# Altium integrated library National Semiconductor Switcher.IntLib: 2226 symbols (part 14 of 59)
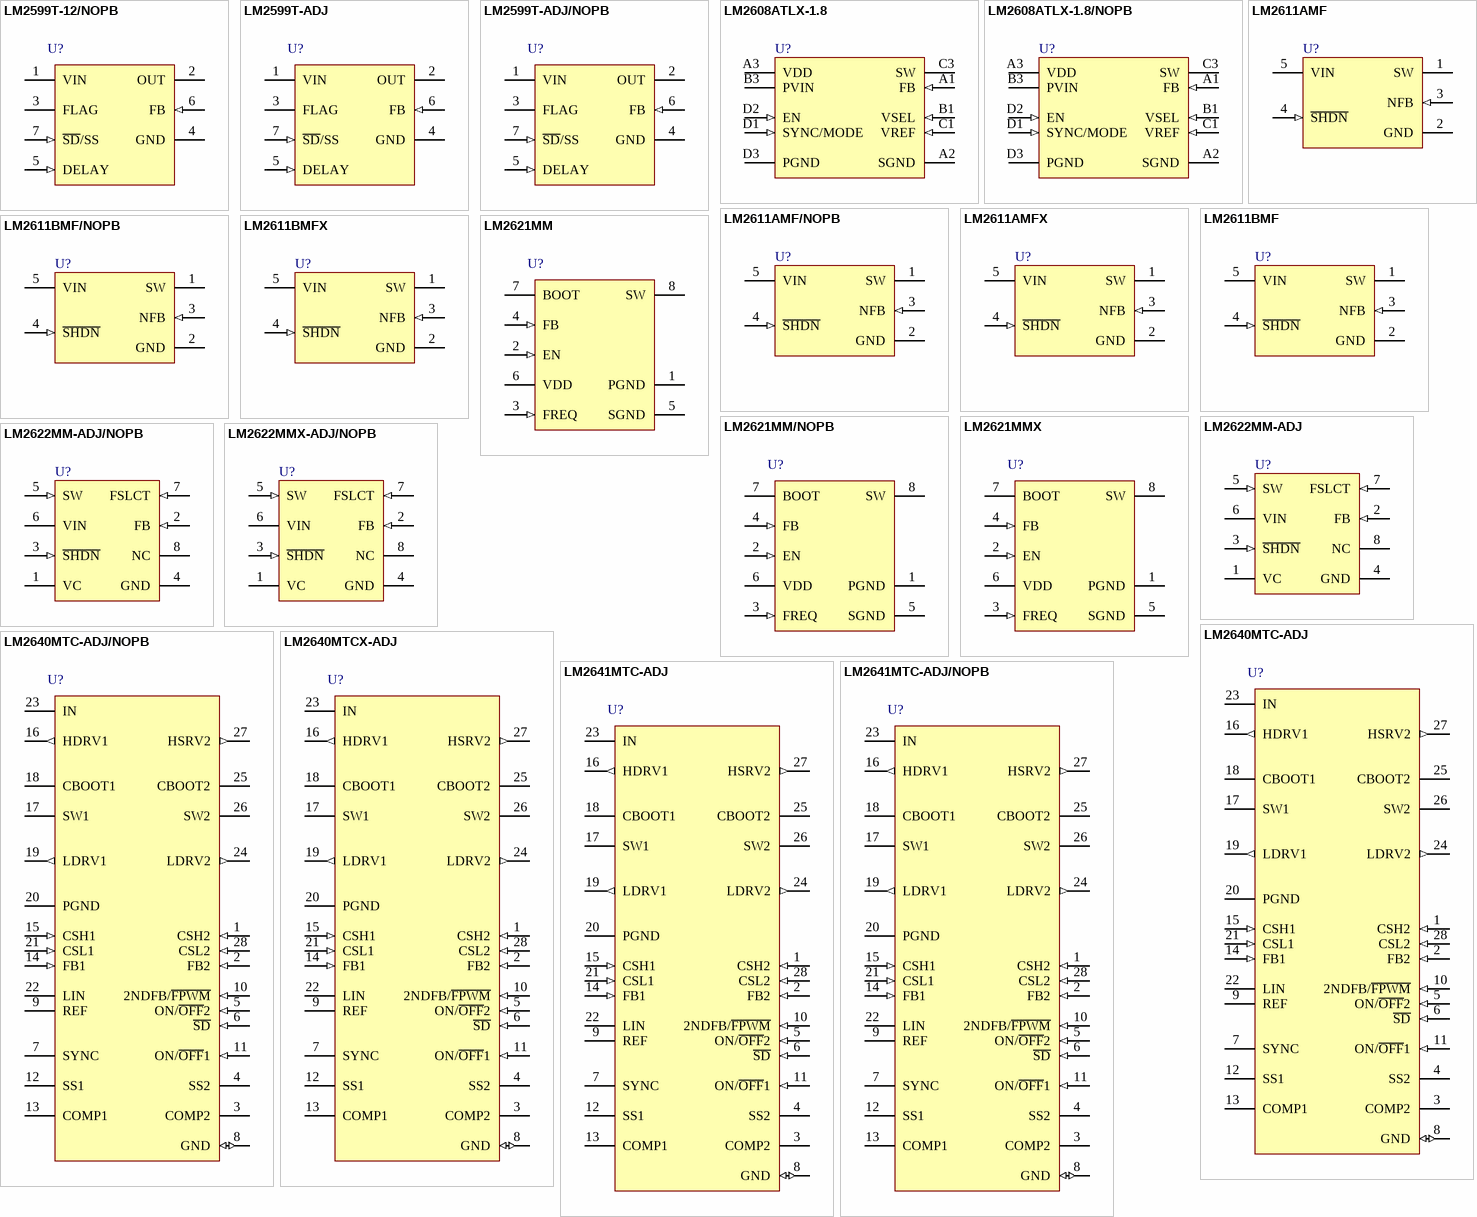
[diagram p82: symbols LM2599T-12/NOPB to LM2641MTC-ADJ/NOPB]

## LM2599T-12/NOPB
designator U?
SIMPLE SWITCHER® Power Converter 150 KHz 3A Step-Down Voltage Regulator with Features, 7-pin TO-220, Pb-Free; PartNumber: LM2599T-12/NOPB; Manufacturer: National Semiconductor; PackageTopMarking: NSUZXYTTE#*LM2599T*-12 P+; PowerWise: N; High-Reliability: Y; DatasheetVersion: Dec-2000; PackageVersion: revC, Apr-1999; PackageReference: TA07B; PackageDescription: TO-220, Molded, .400 x .590 x .180in Body, 7 Lead, .050in Pitch, Staggered; RoHS: Y; PinCount: 7; CompType: Switcher; Code_JEDEC: TO-220-AB; ComponentLink1Description: Manufacturer URL; ComponentLink1URL: http://www.national.com/; ComponentLink2Description: LM2599 Datasheet; ComponentLink2URL: http://www.national.com/ds/LM/LM2599.pdf; ComponentLink3Description: LM2599 Web Page; ComponentLink3URL: http://www.national.com/pf/LM/LM2599.html; ComponentLink4Description: TA07B Package Page; ComponentLink4URL: http://www.national.com/packaging/folders/ta07b.html
footprint TA07B (TO, Thru-Hole, Vertical, Heatsink Mounted; 7 Bent Staggered Leads; Body 10.2x8.7x4.6mm, Pitch 1.27 mm)
pins: 1 VIN (power), 2 OUT (power), 3 FLAG (oc), 4 GND (power), 5 DELAY (in), 6 FB (in), 7 ~{SD}/SS (in)

## LM2599T-ADJ
designator U?
SIMPLE SWITCHER® Power Converter 150 KHz 3A Step-Down Voltage Regulator with Features, 7-pin TO-220; PartNumber: LM2599T-ADJ; Manufacturer: National Semiconductor; PackageTopMarking: NSUZXYTTE#*LM2599T*-ADJ P+; PowerWise: N; High-Reliability: Y; DatasheetVersion: Dec-2000; PackageVersion: revC, Apr-1999; PackageReference: TA07B; PackageDescription: TO-220, Molded, .400 x .590 x .180in Body, 7 Lead, .050in Pitch, Staggered; RoHS: N; PinCount: 7; CompType: Switcher; Code_JEDEC: TO-220-AB; ComponentLink1Description: Manufacturer URL; ComponentLink1URL: http://www.national.com/; ComponentLink2Description: LM2599 Datasheet; ComponentLink2URL: http://www.national.com/ds/LM/LM2599.pdf; ComponentLink3Description: LM2599 Web Page; ComponentLink3URL: http://www.national.com/pf/LM/LM2599.html; ComponentLink4Description: TA07B Package Page; ComponentLink4URL: http://www.national.com/packaging/folders/ta07b.html
footprint TA07B (TO, Thru-Hole, Vertical, Heatsink Mounted; 7 Bent Staggered Leads; Body 10.2x8.7x4.6mm, Pitch 1.27 mm)
pins: 1 VIN (power), 2 OUT (power), 3 FLAG (oc), 4 GND (power), 5 DELAY (in), 6 FB (in), 7 ~{SD}/SS (in)

## LM2599T-ADJ/NOPB
designator U?
SIMPLE SWITCHER® Power Converter 150 KHz 3A Step-Down Voltage Regulator with Features, 7-pin TO-220, Pb-Free; PartNumber: LM2599T-ADJ/NOPB; Manufacturer: National Semiconductor; PackageTopMarking: NSUZXYTTE#*LM2599T*-ADJ P+; PowerWise: N; High-Reliability: Y; DatasheetVersion: Dec-2000; PackageVersion: revC, Apr-1999; PackageReference: TA07B; PackageDescription: TO-220, Molded, .400 x .590 x .180in Body, 7 Lead, .050in Pitch, Staggered; RoHS: Y; PinCount: 7; CompType: Switcher; Code_JEDEC: TO-220-AB; ComponentLink1Description: Manufacturer URL; ComponentLink1URL: http://www.national.com/; ComponentLink2Description: LM2599 Datasheet; ComponentLink2URL: http://www.national.com/ds/LM/LM2599.pdf; ComponentLink3Description: LM2599 Web Page; ComponentLink3URL: http://www.national.com/pf/LM/LM2599.html; ComponentLink4Description: TA07B Package Page; ComponentLink4URL: http://www.national.com/packaging/folders/ta07b.html
footprint TA07B (TO, Thru-Hole, Vertical, Heatsink Mounted; 7 Bent Staggered Leads; Body 10.2x8.7x4.6mm, Pitch 1.27 mm)
pins: 1 VIN (power), 2 OUT (power), 3 FLAG (oc), 4 GND (power), 5 DELAY (in), 6 FB (in), 7 ~{SD}/SS (in)

## LM2608ATLX-1.8
designator U?
400mA Sub-miniature, High Efficiency, Programmable DC-DC Converter with Linear Mode, 10-pin Micro SMD; PartNumber: LM2608ATLX-1.8; Manufacturer: National Semiconductor; PackageTopMarking: XYTT*I S44A; PowerWise: N; CompType: Switcher; High-Reliability: Y; DatasheetVersion: Dec-2002; PackageVersion: revD, Mar-2004; PackageReference: TLP108WA; PackageDescription: Thin Micro SMD, 10 Bump (Large), Periperal, 0.5mm Pitch; RoHS: Y; PinCount: 10; Code_JEDEC: MO-211-BD; ComponentLink1Description: Manufacturer URL; ComponentLink1URL: http://www.national.com/; ComponentLink2Description: LM2608 Datasheet; ComponentLink2URL: http://www.national.com/ds/LM/LM2608.pdf; ComponentLink3Description: LM2608 Web Page; ComponentLink3URL: http://www.national.com/pf/LM/LM2608.html; ComponentLink4Description: TLP108WA Package Page; ComponentLink4URL: http://www.national.com/packaging/folders/tlp108wa.html
footprint TLP108WA (Micro SMD, 10-Leads, Body 2.5x2.25mm, Pitch 0.5mm, NSC Recommended)
pins: A1 FB (in), A2 SGND (power), A3 VDD (power), B1 VSEL (in), B3 PVIN (power), C1 VREF (in), C3 SW (power), D1 SYNC/MODE (in), D2 EN (in), D3 PGND (power)

## LM2608ATLX-1.8/NOPB
designator U?
400mA Sub-miniature, High Efficiency, Programmable DC-DC Converter with Linear Mode, 10-pin Micro SMD, Pb-Free; PartNumber: LM2608ATLX-1.8/NOPB; Manufacturer: National Semiconductor; PackageTopMarking: XYTT*I S44A; PowerWise: N; CompType: Switcher; High-Reliability: Y; DatasheetVersion: Dec-2002; PackageVersion: revD, Mar-2004; PackageReference: TLP108WA; PackageDescription: Thin Micro SMD, 10 Bump (Large), Periperal, 0.5mm Pitch; RoHS: Y; PinCount: 10; Code_JEDEC: MO-211-BD; ComponentLink1Description: Manufacturer URL; ComponentLink1URL: http://www.national.com/; ComponentLink2Description: LM2608 Datasheet; ComponentLink2URL: http://www.national.com/ds/LM/LM2608.pdf; ComponentLink3Description: LM2608 Web Page; ComponentLink3URL: http://www.national.com/pf/LM/LM2608.html; ComponentLink4Description: TLP108WA Package Page; ComponentLink4URL: http://www.national.com/packaging/folders/tlp108wa.html
footprint TLP108WA (Micro SMD, 10-Leads, Body 2.5x2.25mm, Pitch 0.5mm, NSC Recommended)
pins: A1 FB (in), A2 SGND (power), A3 VDD (power), B1 VSEL (in), B3 PVIN (power), C1 VREF (in), C3 SW (power), D1 SYNC/MODE (in), D2 EN (in), D3 PGND (power)

## LM2611AMF
designator U?
1.4MHz Cuk Converter, 5-pin SOT-23; PartNumber: LM2611AMF; Manufacturer: National Semiconductor; PackageTopMarking: S40A*XTT; PowerWise: N; CompType: Switcher; High-Reliability: Y; DatasheetVersion: Jan-2005; PackageVersion: revD, Aug-2008; PackageReference: MF05A; PackageDescription: Molded SOT-23, .115 x .063 x .040 in Body, 5 Lead, .0375 in Pitch; RoHS: N; PinCount: 5; ComponentLink1Description: Manufacturer URL; ComponentLink1URL: http://www.national.com/; ComponentLink2Description: LM2611 Datasheet; ComponentLink2URL: http://www.national.com/ds/LM/LM2611.pdf; ComponentLink3Description: LM2611 Web Page; ComponentLink3URL: http://www.national.com/pf/LM/LM2611.html; ComponentLink4Description: MF05A Package Page; ComponentLink4URL: http://www.national.com/packaging/folders/mf05a.html
footprint MF05A_N (SOT23, 5-Leads, Body 2.9x1.6mm, Pitch 0.95mm, Lead Span 2.8mm, IPC Medium Density)
footprint MF05A_L (SOT23, 5-Leads, Body 2.9x1.6mm, Pitch 0.95mm, Lead Span 2.8mm, IPC High Density)
footprint MF05A_M (SOT23, 5-Leads, Body 2.9x1.6mm, Pitch 0.95mm, Lead Span 2.8mm, IPC Low Density)
pins: 1 SW (power), 2 GND (power), 3 NFB (in), 4 ~{SHDN} (in), 5 VIN (power)

## LM2611AMF/NOPB
designator U?
1.4MHz Cuk Converter, 5-pin SOT-23, Pb-Free; PartNumber: LM2611AMF/NOPB; Manufacturer: National Semiconductor; PackageTopMarking: S40A*XTT; PowerWise: N; CompType: Switcher; High-Reliability: Y; DatasheetVersion: Jan-2005; PackageVersion: revD, Aug-2008; PackageReference: MF05A; PackageDescription: Molded SOT-23, .115 x .063 x .040 in Body, 5 Lead, .0375 in Pitch; RoHS: Y; PinCount: 5; ComponentLink1Description: Manufacturer URL; ComponentLink1URL: http://www.national.com/; ComponentLink2Description: LM2611 Datasheet; ComponentLink2URL: http://www.national.com/ds/LM/LM2611.pdf; ComponentLink3Description: LM2611 Web Page; ComponentLink3URL: http://www.national.com/pf/LM/LM2611.html; ComponentLink4Description: MF05A Package Page; ComponentLink4URL: http://www.national.com/packaging/folders/mf05a.html
footprint MF05A_N (SOT23, 5-Leads, Body 2.9x1.6mm, Pitch 0.95mm, Lead Span 2.8mm, IPC Medium Density)
footprint MF05A_L (SOT23, 5-Leads, Body 2.9x1.6mm, Pitch 0.95mm, Lead Span 2.8mm, IPC High Density)
footprint MF05A_M (SOT23, 5-Leads, Body 2.9x1.6mm, Pitch 0.95mm, Lead Span 2.8mm, IPC Low Density)
pins: 1 SW (power), 2 GND (power), 3 NFB (in), 4 ~{SHDN} (in), 5 VIN (power)

## LM2611AMFX
designator U?
1.4MHz Cuk Converter, 5-pin SOT-23; PartNumber: LM2611AMFX; Manufacturer: National Semiconductor; PackageTopMarking: S40A*XTT; PowerWise: N; CompType: Switcher; High-Reliability: Y; DatasheetVersion: Jan-2005; PackageVersion: revD, Aug-2008; PackageReference: MF05A; PackageDescription: Molded SOT-23, .115 x .063 x .040 in Body, 5 Lead, .0375 in Pitch; RoHS: N; PinCount: 5; ComponentLink1Description: Manufacturer URL; ComponentLink1URL: http://www.national.com/; ComponentLink2Description: LM2611 Datasheet; ComponentLink2URL: http://www.national.com/ds/LM/LM2611.pdf; ComponentLink3Description: LM2611 Web Page; ComponentLink3URL: http://www.national.com/pf/LM/LM2611.html; ComponentLink4Description: MF05A Package Page; ComponentLink4URL: http://www.national.com/packaging/folders/mf05a.html
footprint MF05A_N (SOT23, 5-Leads, Body 2.9x1.6mm, Pitch 0.95mm, Lead Span 2.8mm, IPC Medium Density)
footprint MF05A_L (SOT23, 5-Leads, Body 2.9x1.6mm, Pitch 0.95mm, Lead Span 2.8mm, IPC High Density)
footprint MF05A_M (SOT23, 5-Leads, Body 2.9x1.6mm, Pitch 0.95mm, Lead Span 2.8mm, IPC Low Density)
pins: 1 SW (power), 2 GND (power), 3 NFB (in), 4 ~{SHDN} (in), 5 VIN (power)

## LM2611BMF
designator U?
1.4MHz Cuk Converter, 5-pin SOT-23; PartNumber: LM2611BMF; Manufacturer: National Semiconductor; PackageTopMarking: S40B*XTT; PowerWise: N; CompType: Switcher; High-Reliability: Y; DatasheetVersion: Jan-2005; PackageVersion: revD, Aug-2008; PackageReference: MF05A; PackageDescription: Molded SOT-23, .115 x .063 x .040 in Body, 5 Lead, .0375 in Pitch; RoHS: N; PinCount: 5; ComponentLink1Description: Manufacturer URL; ComponentLink1URL: http://www.national.com/; ComponentLink2Description: LM2611 Datasheet; ComponentLink2URL: http://www.national.com/ds/LM/LM2611.pdf; ComponentLink3Description: LM2611 Web Page; ComponentLink3URL: http://www.national.com/pf/LM/LM2611.html; ComponentLink4Description: MF05A Package Page; ComponentLink4URL: http://www.national.com/packaging/folders/mf05a.html
footprint MF05A_N (SOT23, 5-Leads, Body 2.9x1.6mm, Pitch 0.95mm, Lead Span 2.8mm, IPC Medium Density)
footprint MF05A_L (SOT23, 5-Leads, Body 2.9x1.6mm, Pitch 0.95mm, Lead Span 2.8mm, IPC High Density)
footprint MF05A_M (SOT23, 5-Leads, Body 2.9x1.6mm, Pitch 0.95mm, Lead Span 2.8mm, IPC Low Density)
pins: 1 SW (power), 2 GND (power), 3 NFB (in), 4 ~{SHDN} (in), 5 VIN (power)

## LM2611BMF/NOPB
designator U?
1.4MHz Cuk Converter, 5-pin SOT-23, Pb-Free; PartNumber: LM2611BMF/NOPB; Manufacturer: National Semiconductor; PackageTopMarking: S40B*XTT; PowerWise: N; CompType: Switcher; High-Reliability: Y; DatasheetVersion: Jan-2005; PackageVersion: revD, Aug-2008; PackageReference: MF05A; PackageDescription: Molded SOT-23, .115 x .063 x .040 in Body, 5 Lead, .0375 in Pitch; RoHS: Y; PinCount: 5; ComponentLink1Description: Manufacturer URL; ComponentLink1URL: http://www.national.com/; ComponentLink2Description: LM2611 Datasheet; ComponentLink2URL: http://www.national.com/ds/LM/LM2611.pdf; ComponentLink3Description: LM2611 Web Page; ComponentLink3URL: http://www.national.com/pf/LM/LM2611.html; ComponentLink4Description: MF05A Package Page; ComponentLink4URL: http://www.national.com/packaging/folders/mf05a.html
footprint MF05A_N (SOT23, 5-Leads, Body 2.9x1.6mm, Pitch 0.95mm, Lead Span 2.8mm, IPC Medium Density)
footprint MF05A_L (SOT23, 5-Leads, Body 2.9x1.6mm, Pitch 0.95mm, Lead Span 2.8mm, IPC High Density)
footprint MF05A_M (SOT23, 5-Leads, Body 2.9x1.6mm, Pitch 0.95mm, Lead Span 2.8mm, IPC Low Density)
pins: 1 SW (power), 2 GND (power), 3 NFB (in), 4 ~{SHDN} (in), 5 VIN (power)

## LM2611BMFX
designator U?
1.4MHz Cuk Converter, 5-pin SOT-23; PartNumber: LM2611BMFX; Manufacturer: National Semiconductor; PackageTopMarking: S40B*XTT; PowerWise: N; CompType: Switcher; High-Reliability: Y; DatasheetVersion: Jan-2005; PackageVersion: revD, Aug-2008; PackageReference: MF05A; PackageDescription: Molded SOT-23, .115 x .063 x .040 in Body, 5 Lead, .0375 in Pitch; RoHS: N; PinCount: 5; ComponentLink1Description: Manufacturer URL; ComponentLink1URL: http://www.national.com/; ComponentLink2Description: LM2611 Datasheet; ComponentLink2URL: http://www.national.com/ds/LM/LM2611.pdf; ComponentLink3Description: LM2611 Web Page; ComponentLink3URL: http://www.national.com/pf/LM/LM2611.html; ComponentLink4Description: MF05A Package Page; ComponentLink4URL: http://www.national.com/packaging/folders/mf05a.html
footprint MF05A_N (SOT23, 5-Leads, Body 2.9x1.6mm, Pitch 0.95mm, Lead Span 2.8mm, IPC Medium Density)
footprint MF05A_L (SOT23, 5-Leads, Body 2.9x1.6mm, Pitch 0.95mm, Lead Span 2.8mm, IPC High Density)
footprint MF05A_M (SOT23, 5-Leads, Body 2.9x1.6mm, Pitch 0.95mm, Lead Span 2.8mm, IPC Low Density)
pins: 1 SW (power), 2 GND (power), 3 NFB (in), 4 ~{SHDN} (in), 5 VIN (power)

## LM2621MM
designator U?
Low Input Voltage, Step-Up DC-DC, 8-pin MSOP; PartNumber: LM2621MM; Manufacturer: National Semiconductor; PackageTopMarking: ZXTT*S06A; PowerWise: N; CompType: Switcher; High-Reliability: Y; DatasheetVersion: Mar-2005; PackageVersion: revF, Apr-2008; PackageReference: MUA08A; PackageDescription: MINI SOIC, .118 x .118 x .034in, 8 Lead, .0256in Pitch; RoHS: N; PinCount: 8; Code_JEDEC: MO-187-AA; ComponentLink1Description: Manufacturer URL; ComponentLink1URL: http://www.national.com/; ComponentLink2Description: LM2621 Datasheet; ComponentLink2URL: http://www.national.com/ds/LM/LM2621.pdf; ComponentLink3Description: LM2621 Web Page; ComponentLink3URL: http://www.national.com/pf/LM/LM2621.html; ComponentLink4Description: MUA08A Package Page; ComponentLink4URL: http://www.national.com/packaging/folders/mua08a.html
footprint MUA08A_N (TSOP, 8-Leads, Body 3x3mm, Pitch 0.65mm, IPC Medium Density)
footprint MUA08A_L (TSOP, 8-Leads, Body 3x3mm, Pitch 0.65mm, IPC High Density)
footprint MUA08A_M (TSOP, 8-Leads, Body 3x3mm, Pitch 0.65mm, IPC Low Density)
pins: 1 PGND (power), 2 EN (in), 3 FREQ (in), 4 FB (in), 5 SGND (power), 6 VDD (power), 7 BOOT, 8 SW (power)

## LM2621MM/NOPB
designator U?
Low Input Voltage, Step-Up DC-DC, 8-pin MSOP, Pb-Free; PartNumber: LM2621MM/NOPB; Manufacturer: National Semiconductor; PackageTopMarking: ZXTT*S06A; PowerWise: N; CompType: Switcher; High-Reliability: Y; DatasheetVersion: Mar-2005; PackageVersion: revF, Apr-2008; PackageReference: MUA08A; PackageDescription: MINI SOIC, .118 x .118 x .034in, 8 Lead, .0256in Pitch; RoHS: Y; PinCount: 8; Code_JEDEC: MO-187-AA; ComponentLink1Description: Manufacturer URL; ComponentLink1URL: http://www.national.com/; ComponentLink2Description: LM2621 Datasheet; ComponentLink2URL: http://www.national.com/ds/LM/LM2621.pdf; ComponentLink3Description: LM2621 Web Page; ComponentLink3URL: http://www.national.com/pf/LM/LM2621.html; ComponentLink4Description: MUA08A Package Page; ComponentLink4URL: http://www.national.com/packaging/folders/mua08a.html
footprint MUA08A_N (TSOP, 8-Leads, Body 3x3mm, Pitch 0.65mm, IPC Medium Density)
footprint MUA08A_L (TSOP, 8-Leads, Body 3x3mm, Pitch 0.65mm, IPC High Density)
footprint MUA08A_M (TSOP, 8-Leads, Body 3x3mm, Pitch 0.65mm, IPC Low Density)
pins: 1 PGND (power), 2 EN (in), 3 FREQ (in), 4 FB (in), 5 SGND (power), 6 VDD (power), 7 BOOT, 8 SW (power)

## LM2621MMX
designator U?
Low Input Voltage, Step-Up DC-DC, 8-pin MSOP; PartNumber: LM2621MMX; Manufacturer: National Semiconductor; PackageTopMarking: ZXTT*S06A; PowerWise: N; CompType: Switcher; High-Reliability: Y; DatasheetVersion: Mar-2005; PackageVersion: revF, Apr-2008; PackageReference: MUA08A; PackageDescription: MINI SOIC, .118 x .118 x .034in, 8 Lead, .0256in Pitch; RoHS: N; PinCount: 8; Code_JEDEC: MO-187-AA; ComponentLink1Description: Manufacturer URL; ComponentLink1URL: http://www.national.com/; ComponentLink2Description: LM2621 Datasheet; ComponentLink2URL: http://www.national.com/ds/LM/LM2621.pdf; ComponentLink3Description: LM2621 Web Page; ComponentLink3URL: http://www.national.com/pf/LM/LM2621.html; ComponentLink4Description: MUA08A Package Page; ComponentLink4URL: http://www.national.com/packaging/folders/mua08a.html
footprint MUA08A_N (TSOP, 8-Leads, Body 3x3mm, Pitch 0.65mm, IPC Medium Density)
footprint MUA08A_L (TSOP, 8-Leads, Body 3x3mm, Pitch 0.65mm, IPC High Density)
footprint MUA08A_M (TSOP, 8-Leads, Body 3x3mm, Pitch 0.65mm, IPC Low Density)
pins: 1 PGND (power), 2 EN (in), 3 FREQ (in), 4 FB (in), 5 SGND (power), 6 VDD (power), 7 BOOT, 8 SW (power)

## LM2622MM-ADJ
designator U?
600kHz/1.3MHz Step-up PWM DC/DC Converter, 8-pin MSOP; PartNumber: LM2622MM-ADJ; Manufacturer: National Semiconductor; PackageTopMarking: ZXTT*S18B; PowerWise: N; CompType: Switcher; High-Reliability: Y; DatasheetVersion: May-2004; PackageVersion: revF, Apr-2008; PackageReference: MUA08A; PackageDescription: MINI SOIC, .118 x .118 x .034in, 8 Lead, .0256in Pitch; RoHS: N; PinCount: 8; Code_JEDEC: MO-187-AA; ComponentLink1Description: Manufacturer URL; ComponentLink1URL: http://www.national.com/; ComponentLink2Description: LM2622 Datasheet; ComponentLink2URL: http://www.national.com/ds/LM/LM2622.pdf; ComponentLink3Description: LM2622 Web Page; ComponentLink3URL: http://www.national.com/pf/LM/LM2622.html; ComponentLink4Description: MUA08A Package Page; ComponentLink4URL: http://www.national.com/packaging/folders/mua08a.html
footprint MUA08A_N (TSOP, 8-Leads, Body 3x3mm, Pitch 0.65mm, IPC Medium Density)
footprint MUA08A_L (TSOP, 8-Leads, Body 3x3mm, Pitch 0.65mm, IPC High Density)
footprint MUA08A_M (TSOP, 8-Leads, Body 3x3mm, Pitch 0.65mm, IPC Low Density)
pins: 1 VC (power), 2 FB (in), 3 ~{SHDN} (in), 4 GND (power), 5 SW (in), 6 VIN (power), 7 FSLCT (in), 8 NC

## LM2622MM-ADJ/NOPB
designator U?
600kHz/1.3MHz Step-up PWM DC/DC Converter, 8-pin MSOP, Pb-Free; PartNumber: LM2622MM-ADJ/NOPB; Manufacturer: National Semiconductor; PackageTopMarking: ZXTT*S18B; PowerWise: N; CompType: Switcher; High-Reliability: Y; DatasheetVersion: May-2004; PackageVersion: revF, Apr-2008; PackageReference: MUA08A; PackageDescription: MINI SOIC, .118 x .118 x .034in, 8 Lead, .0256in Pitch; RoHS: Y; PinCount: 8; Code_JEDEC: MO-187-AA; ComponentLink1Description: Manufacturer URL; ComponentLink1URL: http://www.national.com/; ComponentLink2Description: LM2622 Datasheet; ComponentLink2URL: http://www.national.com/ds/LM/LM2622.pdf; ComponentLink3Description: LM2622 Web Page; ComponentLink3URL: http://www.national.com/pf/LM/LM2622.html; ComponentLink4Description: MUA08A Package Page; ComponentLink4URL: http://www.national.com/packaging/folders/mua08a.html
footprint MUA08A_N (TSOP, 8-Leads, Body 3x3mm, Pitch 0.65mm, IPC Medium Density)
footprint MUA08A_L (TSOP, 8-Leads, Body 3x3mm, Pitch 0.65mm, IPC High Density)
footprint MUA08A_M (TSOP, 8-Leads, Body 3x3mm, Pitch 0.65mm, IPC Low Density)
pins: 1 VC (power), 2 FB (in), 3 ~{SHDN} (in), 4 GND (power), 5 SW (in), 6 VIN (power), 7 FSLCT (in), 8 NC

## LM2622MMX-ADJ/NOPB
designator U?
600kHz/1.3MHz Step-up PWM DC/DC Converter, 8-pin MSOP, Pb-Free; PartNumber: LM2622MMX-ADJ/NOPB; Manufacturer: National Semiconductor; PackageTopMarking: ZXTT*S18B; PowerWise: N; CompType: Switcher; High-Reliability: Y; DatasheetVersion: May-2004; PackageVersion: revF, Apr-2008; PackageReference: MUA08A; PackageDescription: MINI SOIC, .118 x .118 x .034in, 8 Lead, .0256in Pitch; RoHS: Y; PinCount: 8; Code_JEDEC: MO-187-AA; ComponentLink1Description: Manufacturer URL; ComponentLink1URL: http://www.national.com/; ComponentLink2Description: LM2622 Datasheet; ComponentLink2URL: http://www.national.com/ds/LM/LM2622.pdf; ComponentLink3Description: LM2622 Web Page; ComponentLink3URL: http://www.national.com/pf/LM/LM2622.html; ComponentLink4Description: MUA08A Package Page; ComponentLink4URL: http://www.national.com/packaging/folders/mua08a.html
footprint MUA08A_N (TSOP, 8-Leads, Body 3x3mm, Pitch 0.65mm, IPC Medium Density)
footprint MUA08A_L (TSOP, 8-Leads, Body 3x3mm, Pitch 0.65mm, IPC High Density)
footprint MUA08A_M (TSOP, 8-Leads, Body 3x3mm, Pitch 0.65mm, IPC Low Density)
pins: 1 VC (power), 2 FB (in), 3 ~{SHDN} (in), 4 GND (power), 5 SW (in), 6 VIN (power), 7 FSLCT (in), 8 NC

## LM2640MTC-ADJ
designator U?
Dual Adjustable Step-Down Switching Power Supply Controller, 28-pin TSSOP; PartNumber: LM2640MTC-ADJ; Manufacturer: National Semiconductor; PackageTopMarking: NSUZXYTTE#*LM2640M*TC-ADJ; PowerWise: N; CompType: Switcher; High-Reliability: Y; DatasheetVersion: May-2001; PackageVersion: revD, Jan-2005; PackageReference: MTC28; PackageDescription: Molded TSSOP, Jedec, 9.7 x 4.4 x 0.9mm Body, 28 Lead, 0.65mm Pitch; RoHS: N; PinCount: 28; Code_JEDEC: MO-153-AE; ComponentLink1Description: Manufacturer URL; ComponentLink1URL: http://www.national.com/; ComponentLink2Description: LM2640 Datasheet; ComponentLink2URL: http://www.national.com/ds/LM/LM2640.pdf; ComponentLink3Description: LM2640 Web Page; ComponentLink3URL: http://www.national.com/pf/LM/LM2640.html; ComponentLink4Description: MTC28 Package Page; ComponentLink4URL: http://www.national.com/packaging/folders/mtc28.html
footprint MTC28_N (TSOP, 28-Leads, Body 9.7x4.4mm, Pitch 0.65mm, IPC Medium Density)
footprint MTC28_L (TSOP, 28-Leads, Body 9.7x4.4mm, Pitch 0.65mm, IPC High Density)
footprint MTC28_M (TSOP, 28-Leads, Body 9.7x4.4mm, Pitch 0.65mm, IPC Low Density)
pins: 1 CSH2 (in), 2 FB2 (in), 3 COMP2, 4 SS2, 5 ON/~{OFF}2 (in), 6 ~{SD} (in), 7 SYNC, 8 GND (io), 9 REF (power), 10 2NDFB/~{FPWM} (in), 11 ON/~{OFF}1 (in), 12 SS1, 13 COMP1, 14 FB1 (in), 15 CSH1 (in), 16 HDRV1 (out), 17 SW1 (power), 18 CBOOT1, 19 LDRV1 (out), 20 PGND (power), 21 CSL1 (in), 22 LIN (power), 23 IN (power), 24 LDRV2 (out), 25 CBOOT2, 26 SW2 (power), 27 HSRV2 (out), 28 CSL2 (in)

## LM2640MTC-ADJ/NOPB
designator U?
Dual Adjustable Step-Down Switching Power Supply Controller, 28-pin TSSOP, Pb-Free; PartNumber: LM2640MTC-ADJ/NOPB; Manufacturer: National Semiconductor; PackageTopMarking: NSUZXYTTE#*LM2640M*TC-ADJ; PowerWise: N; CompType: Switcher; High-Reliability: Y; DatasheetVersion: May-2001; PackageVersion: revD, Jan-2005; PackageReference: MTC28; PackageDescription: Molded TSSOP, Jedec, 9.7 x 4.4 x 0.9mm Body, 28 Lead, 0.65mm Pitch; RoHS: Y; PinCount: 28; Code_JEDEC: MO-153-AE; ComponentLink1Description: Manufacturer URL; ComponentLink1URL: http://www.national.com/; ComponentLink2Description: LM2640 Datasheet; ComponentLink2URL: http://www.national.com/ds/LM/LM2640.pdf; ComponentLink3Description: LM2640 Web Page; ComponentLink3URL: http://www.national.com/pf/LM/LM2640.html; ComponentLink4Description: MTC28 Package Page; ComponentLink4URL: http://www.national.com/packaging/folders/mtc28.html
footprint MTC28_N (TSOP, 28-Leads, Body 9.7x4.4mm, Pitch 0.65mm, IPC Medium Density)
footprint MTC28_L (TSOP, 28-Leads, Body 9.7x4.4mm, Pitch 0.65mm, IPC High Density)
footprint MTC28_M (TSOP, 28-Leads, Body 9.7x4.4mm, Pitch 0.65mm, IPC Low Density)
pins: 1 CSH2 (in), 2 FB2 (in), 3 COMP2, 4 SS2, 5 ON/~{OFF}2 (in), 6 ~{SD} (in), 7 SYNC, 8 GND (io), 9 REF (power), 10 2NDFB/~{FPWM} (in), 11 ON/~{OFF}1 (in), 12 SS1, 13 COMP1, 14 FB1 (in), 15 CSH1 (in), 16 HDRV1 (out), 17 SW1 (power), 18 CBOOT1, 19 LDRV1 (out), 20 PGND (power), 21 CSL1 (in), 22 LIN (power), 23 IN (power), 24 LDRV2 (out), 25 CBOOT2, 26 SW2 (power), 27 HSRV2 (out), 28 CSL2 (in)

## LM2640MTCX-ADJ
designator U?
Dual Adjustable Step-Down Switching Power Supply Controller, 28-pin TSSOP; PartNumber: LM2640MTCX-ADJ; Manufacturer: National Semiconductor; PackageTopMarking: NSUZXYTTE#*LM2640M*TC-ADJ; PowerWise: N; CompType: Switcher; High-Reliability: Y; DatasheetVersion: May-2001; PackageVersion: revD, Jan-2005; PackageReference: MTC28; PackageDescription: Molded TSSOP, Jedec, 9.7 x 4.4 x 0.9mm Body, 28 Lead, 0.65mm Pitch; RoHS: N; PinCount: 28; Code_JEDEC: MO-153-AE; ComponentLink1Description: Manufacturer URL; ComponentLink1URL: http://www.national.com/; ComponentLink2Description: LM2640 Datasheet; ComponentLink2URL: http://www.national.com/ds/LM/LM2640.pdf; ComponentLink3Description: LM2640 Web Page; ComponentLink3URL: http://www.national.com/pf/LM/LM2640.html; ComponentLink4Description: MTC28 Package Page; ComponentLink4URL: http://www.national.com/packaging/folders/mtc28.html
footprint MTC28_N (TSOP, 28-Leads, Body 9.7x4.4mm, Pitch 0.65mm, IPC Medium Density)
footprint MTC28_L (TSOP, 28-Leads, Body 9.7x4.4mm, Pitch 0.65mm, IPC High Density)
footprint MTC28_M (TSOP, 28-Leads, Body 9.7x4.4mm, Pitch 0.65mm, IPC Low Density)
pins: 1 CSH2 (in), 2 FB2 (in), 3 COMP2, 4 SS2, 5 ON/~{OFF}2 (in), 6 ~{SD} (in), 7 SYNC, 8 GND (io), 9 REF (power), 10 2NDFB/~{FPWM} (in), 11 ON/~{OFF}1 (in), 12 SS1, 13 COMP1, 14 FB1 (in), 15 CSH1 (in), 16 HDRV1 (out), 17 SW1 (power), 18 CBOOT1, 19 LDRV1 (out), 20 PGND (power), 21 CSL1 (in), 22 LIN (power), 23 IN (power), 24 LDRV2 (out), 25 CBOOT2, 26 SW2 (power), 27 HSRV2 (out), 28 CSL2 (in)

## LM2641MTC-ADJ
designator U?
Dual Adjustable Step-Down Switching Power Supply Controller, 28-pin TSSOP; PartNumber: LM2641MTC-ADJ; Manufacturer: National Semiconductor; PackageTopMarking: NSUZXYTTE#*LM2641M*TC-ADJ; PowerWise: N; CompType: Switcher; High-Reliability: Y; DatasheetVersion: May-2001; PackageVersion: revD, Jan-2005; PackageReference: MTC28; PackageDescription: Molded TSSOP, Jedec, 9.7 x 4.4 x 0.9mm Body, 28 Lead, 0.65mm Pitch; RoHS: N; PinCount: 28; Code_JEDEC: MO-153-AE; ComponentLink1Description: Manufacturer URL; ComponentLink1URL: http://www.national.com/; ComponentLink2Description: LM2641 Datasheet; ComponentLink2URL: http://www.national.com/ds/LM/LM2641.pdf; ComponentLink3Description: LM2641 Web Page; ComponentLink3URL: http://www.national.com/pf/LM/LM2641.html; ComponentLink4Description: MTC28 Package Page; ComponentLink4URL: http://www.national.com/packaging/folders/mtc28.html
footprint MTC28_N (TSOP, 28-Leads, Body 9.7x4.4mm, Pitch 0.65mm, IPC Medium Density)
footprint MTC28_L (TSOP, 28-Leads, Body 9.7x4.4mm, Pitch 0.65mm, IPC High Density)
footprint MTC28_M (TSOP, 28-Leads, Body 9.7x4.4mm, Pitch 0.65mm, IPC Low Density)
pins: 1 CSH2 (in), 2 FB2 (in), 3 COMP2, 4 SS2, 5 ON/~{OFF}2 (in), 6 ~{SD} (in), 7 SYNC, 8 GND (io), 9 REF (power), 10 2NDFB/~{FPWM} (in), 11 ON/~{OFF}1 (in), 12 SS1, 13 COMP1, 14 FB1 (in), 15 CSH1 (in), 16 HDRV1 (out), 17 SW1 (power), 18 CBOOT1, 19 LDRV1 (out), 20 PGND (power), 21 CSL1 (in), 22 LIN (power), 23 IN (power), 24 LDRV2 (out), 25 CBOOT2, 26 SW2 (power), 27 HSRV2 (out), 28 CSL2 (in)

## LM2641MTC-ADJ/NOPB
designator U?
Dual Adjustable Step-Down Switching Power Supply Controller, 28-pin TSSOP, Pb-Free; PartNumber: LM2641MTC-ADJ/NOPB; Manufacturer: National Semiconductor; PackageTopMarking: NSUZXYTTE#*LM2641M*TC-ADJ; PowerWise: N; CompType: Switcher; High-Reliability: Y; DatasheetVersion: May-2001; PackageVersion: revD, Jan-2005; PackageReference: MTC28; PackageDescription: Molded TSSOP, Jedec, 9.7 x 4.4 x 0.9mm Body, 28 Lead, 0.65mm Pitch; RoHS: Y; PinCount: 28; Code_JEDEC: MO-153-AE; ComponentLink1Description: Manufacturer URL; ComponentLink1URL: http://www.national.com/; ComponentLink2Description: LM2641 Datasheet; ComponentLink2URL: http://www.national.com/ds/LM/LM2641.pdf; ComponentLink3Description: LM2641 Web Page; ComponentLink3URL: http://www.national.com/pf/LM/LM2641.html; ComponentLink4Description: MTC28 Package Page; ComponentLink4URL: http://www.national.com/packaging/folders/mtc28.html
footprint MTC28_N (TSOP, 28-Leads, Body 9.7x4.4mm, Pitch 0.65mm, IPC Medium Density)
footprint MTC28_L (TSOP, 28-Leads, Body 9.7x4.4mm, Pitch 0.65mm, IPC High Density)
footprint MTC28_M (TSOP, 28-Leads, Body 9.7x4.4mm, Pitch 0.65mm, IPC Low Density)
pins: 1 CSH2 (in), 2 FB2 (in), 3 COMP2, 4 SS2, 5 ON/~{OFF}2 (in), 6 ~{SD} (in), 7 SYNC, 8 GND (io), 9 REF (power), 10 2NDFB/~{FPWM} (in), 11 ON/~{OFF}1 (in), 12 SS1, 13 COMP1, 14 FB1 (in), 15 CSH1 (in), 16 HDRV1 (out), 17 SW1 (power), 18 CBOOT1, 19 LDRV1 (out), 20 PGND (power), 21 CSL1 (in), 22 LIN (power), 23 IN (power), 24 LDRV2 (out), 25 CBOOT2, 26 SW2 (power), 27 HSRV2 (out), 28 CSL2 (in)

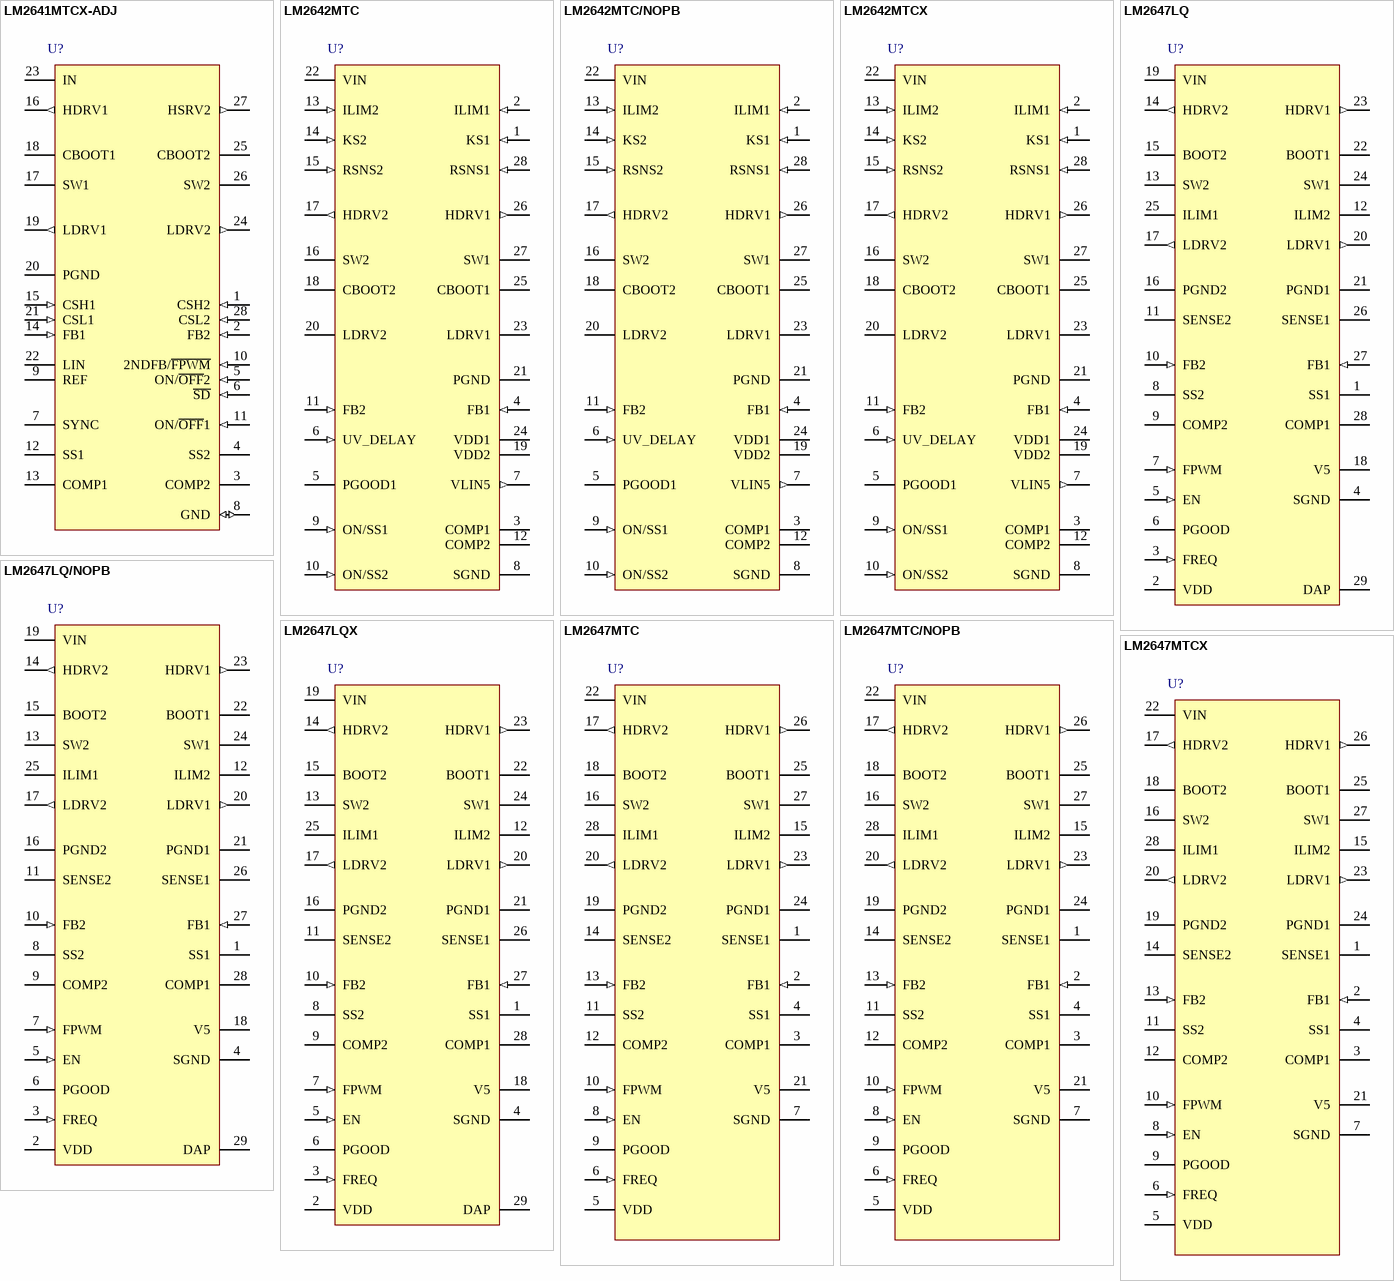
[diagram p14: symbols LM2641MTCX-ADJ to LM2647MTCX]

## LM2641MTCX-ADJ
designator U?
Dual Adjustable Step-Down Switching Power Supply Controller, 28-pin TSSOP; PartNumber: LM2641MTCX-ADJ; Manufacturer: National Semiconductor; PackageTopMarking: NSUZXYTTE#*LM2641M*TC-ADJ; PowerWise: N; CompType: Switcher; High-Reliability: Y; DatasheetVersion: May-2001; PackageVersion: revD, Jan-2005; PackageReference: MTC28; PackageDescription: Molded TSSOP, Jedec, 9.7 x 4.4 x 0.9mm Body, 28 Lead, 0.65mm Pitch; RoHS: N; PinCount: 28; Code_JEDEC: MO-153-AE; ComponentLink1Description: Manufacturer URL; ComponentLink1URL: http://www.national.com/; ComponentLink2Description: LM2641 Datasheet; ComponentLink2URL: http://www.national.com/ds/LM/LM2641.pdf; ComponentLink3Description: LM2641 Web Page; ComponentLink3URL: http://www.national.com/pf/LM/LM2641.html; ComponentLink4Description: MTC28 Package Page; ComponentLink4URL: http://www.national.com/packaging/folders/mtc28.html
footprint MTC28_N (TSOP, 28-Leads, Body 9.7x4.4mm, Pitch 0.65mm, IPC Medium Density)
footprint MTC28_L (TSOP, 28-Leads, Body 9.7x4.4mm, Pitch 0.65mm, IPC High Density)
footprint MTC28_M (TSOP, 28-Leads, Body 9.7x4.4mm, Pitch 0.65mm, IPC Low Density)
pins: 1 CSH2 (in), 2 FB2 (in), 3 COMP2, 4 SS2, 5 ON/~{OFF}2 (in), 6 ~{SD} (in), 7 SYNC, 8 GND (io), 9 REF (power), 10 2NDFB/~{FPWM} (in), 11 ON/~{OFF}1 (in), 12 SS1, 13 COMP1, 14 FB1 (in), 15 CSH1 (in), 16 HDRV1 (out), 17 SW1 (power), 18 CBOOT1, 19 LDRV1 (out), 20 PGND (power), 21 CSL1 (in), 22 LIN (power), 23 IN (power), 24 LDRV2 (out), 25 CBOOT2, 26 SW2 (power), 27 HSRV2 (out), 28 CSL2 (in)

## LM2642MTC
designator U?
Two-Phase Synchronous Step-Down Switching Controller, 28-pin TSSOP; PartNumber: LM2642MTC; Manufacturer: National Semiconductor; PackageTopMarking: NSUZXYTTE#*LM2642MTC; PowerWise: N; CompType: Switcher; High-Reliability: Y; DatasheetVersion: Feb-2006; PackageVersion: revD, Jan-2005; PackageReference: MTC28; PackageDescription: Molded TSSOP, Jedec, 9.7 x 4.4 x 0.9mm Body, 28 Lead, 0.65mm Pitch; RoHS: N; PinCount: 28; Code_JEDEC: MO-153-AE; ComponentLink1Description: Manufacturer URL; ComponentLink1URL: http://www.national.com/; ComponentLink2Description: LM2642 Datasheet; ComponentLink2URL: http://www.national.com/ds/LM/LM2642.pdf; ComponentLink3Description: LM2642 Web Page; ComponentLink3URL: http://www.national.com/pf/LM/LM2642.html; ComponentLink4Description: MTC28 Package Page; ComponentLink4URL: http://www.national.com/packaging/folders/mtc28.html
footprint MTC28_N (TSOP, 28-Leads, Body 9.7x4.4mm, Pitch 0.65mm, IPC Medium Density)
footprint MTC28_L (TSOP, 28-Leads, Body 9.7x4.4mm, Pitch 0.65mm, IPC High Density)
footprint MTC28_M (TSOP, 28-Leads, Body 9.7x4.4mm, Pitch 0.65mm, IPC Low Density)
pins: 1 KS1 (in), 2 ILIM1 (in), 3 COMP1, 4 FB1 (in), 5 PGOOD1 (oc), 6 UV_DELAY (in), 7 VLIN5 (out), 8 SGND (power), 9 ON/SS1 (in), 10 ON/SS2 (in), 11 FB2 (in), 12 COMP2, 13 ILIM2 (in), 14 KS2 (in), 15 RSNS2 (in), 16 SW2 (power), 17 HDRV2 (out), 18 CBOOT2, 19 VDD2 (power), 20 LDRV2 (power), 21 PGND (power), 22 VIN (power), 23 LDRV1 (power), 24 VDD1 (power), 25 CBOOT1, 26 HDRV1 (out), 27 SW1 (power), 28 RSNS1 (in)

## LM2642MTC/NOPB
designator U?
Two-Phase Synchronous Step-Down Switching Controller, 28-pin TSSOP, Pb-Free; PartNumber: LM2642MTC/NOPB; Manufacturer: National Semiconductor; PackageTopMarking: NSUZXYTTE#*LM2642MTC; PowerWise: N; CompType: Switcher; High-Reliability: Y; DatasheetVersion: Feb-2006; PackageVersion: revD, Jan-2005; PackageReference: MTC28; PackageDescription: Molded TSSOP, Jedec, 9.7 x 4.4 x 0.9mm Body, 28 Lead, 0.65mm Pitch; RoHS: Y; PinCount: 28; Code_JEDEC: MO-153-AE; ComponentLink1Description: Manufacturer URL; ComponentLink1URL: http://www.national.com/; ComponentLink2Description: LM2642 Datasheet; ComponentLink2URL: http://www.national.com/ds/LM/LM2642.pdf; ComponentLink3Description: LM2642 Web Page; ComponentLink3URL: http://www.national.com/pf/LM/LM2642.html; ComponentLink4Description: MTC28 Package Page; ComponentLink4URL: http://www.national.com/packaging/folders/mtc28.html
footprint MTC28_N (TSOP, 28-Leads, Body 9.7x4.4mm, Pitch 0.65mm, IPC Medium Density)
footprint MTC28_L (TSOP, 28-Leads, Body 9.7x4.4mm, Pitch 0.65mm, IPC High Density)
footprint MTC28_M (TSOP, 28-Leads, Body 9.7x4.4mm, Pitch 0.65mm, IPC Low Density)
pins: 1 KS1 (in), 2 ILIM1 (in), 3 COMP1, 4 FB1 (in), 5 PGOOD1 (oc), 6 UV_DELAY (in), 7 VLIN5 (out), 8 SGND (power), 9 ON/SS1 (in), 10 ON/SS2 (in), 11 FB2 (in), 12 COMP2, 13 ILIM2 (in), 14 KS2 (in), 15 RSNS2 (in), 16 SW2 (power), 17 HDRV2 (out), 18 CBOOT2, 19 VDD2 (power), 20 LDRV2 (power), 21 PGND (power), 22 VIN (power), 23 LDRV1 (power), 24 VDD1 (power), 25 CBOOT1, 26 HDRV1 (out), 27 SW1 (power), 28 RSNS1 (in)

## LM2642MTCX
designator U?
Two-Phase Synchronous Step-Down Switching Controller, 28-pin TSSOP; PartNumber: LM2642MTCX; Manufacturer: National Semiconductor; PackageTopMarking: NSUZXYTTE#*LM2642MTC; PowerWise: N; CompType: Switcher; High-Reliability: Y; DatasheetVersion: Feb-2006; PackageVersion: revD, Jan-2005; PackageReference: MTC28; PackageDescription: Molded TSSOP, Jedec, 9.7 x 4.4 x 0.9mm Body, 28 Lead, 0.65mm Pitch; RoHS: N; PinCount: 28; Code_JEDEC: MO-153-AE; ComponentLink1Description: Manufacturer URL; ComponentLink1URL: http://www.national.com/; ComponentLink2Description: LM2642 Datasheet; ComponentLink2URL: http://www.national.com/ds/LM/LM2642.pdf; ComponentLink3Description: LM2642 Web Page; ComponentLink3URL: http://www.national.com/pf/LM/LM2642.html; ComponentLink4Description: MTC28 Package Page; ComponentLink4URL: http://www.national.com/packaging/folders/mtc28.html
footprint MTC28_N (TSOP, 28-Leads, Body 9.7x4.4mm, Pitch 0.65mm, IPC Medium Density)
footprint MTC28_L (TSOP, 28-Leads, Body 9.7x4.4mm, Pitch 0.65mm, IPC High Density)
footprint MTC28_M (TSOP, 28-Leads, Body 9.7x4.4mm, Pitch 0.65mm, IPC Low Density)
pins: 1 KS1 (in), 2 ILIM1 (in), 3 COMP1, 4 FB1 (in), 5 PGOOD1 (oc), 6 UV_DELAY (in), 7 VLIN5 (out), 8 SGND (power), 9 ON/SS1 (in), 10 ON/SS2 (in), 11 FB2 (in), 12 COMP2, 13 ILIM2 (in), 14 KS2 (in), 15 RSNS2 (in), 16 SW2 (power), 17 HDRV2 (out), 18 CBOOT2, 19 VDD2 (power), 20 LDRV2 (power), 21 PGND (power), 22 VIN (power), 23 LDRV1 (power), 24 VDD1 (power), 25 CBOOT1, 26 HDRV1 (out), 27 SW1 (power), 28 RSNS1 (in)

## LM2647LQ
designator U?
Dual Synchronous Buck Regulator Controller, 28-pin LLP; PartNumber: LM2647LQ; Manufacturer: National Semiconductor; PackageTopMarking: NS*UZXYTTE#*LM2647; PowerWise: N; CompType: Switcher; High-Reliability: Y; DatasheetVersion: Jun-2005; PackageVersion: revB, Jul-2001; PackageReference: LQA28A; PackageDescription: LLP, Plastic, Quad, 5 x 5 x 0.75mm Body, 28 Lead, 0.5mm Pitch; RoHS: N; PinCount: 28; Code_JEDEC: MO-220-WHHD-1; ComponentLink1Description: Manufacturer URL; ComponentLink1URL: http://www.national.com/; ComponentLink2Description: LM2647 Datasheet; ComponentLink2URL: http://www.national.com/ds/LM/LM2647.pdf; ComponentLink3Description: LM2647 Web Page; ComponentLink3URL: http://www.national.com/pf/LM/LM2647.html; ComponentLink4Description: LQA28A Package Page; ComponentLink4URL: http://www.national.com/packaging/folders/lqa28a.html
footprint LQA28A (PQFN, 28-Leads, Body 5x5mm, Pitch 0.5mm, Thermal Pad 3.3x3.3mm, NSC Recommended)
pins: 1 SS1, 2 VDD (power), 3 FREQ (in), 4 SGND (power), 5 EN (in), 6 PGOOD (oc), 7 FPWM (in), 8 SS2, 9 COMP2, 10 FB2 (in), 11 SENSE2, 12 ILIM2, 13 SW2 (power), 14 HDRV2 (out), 15 BOOT2, 16 PGND2 (power), 17 LDRV2 (out), 18 V5 (power), 19 VIN (power), 20 LDRV1 (out), 21 PGND1 (power), 22 BOOT1, 23 HDRV1 (out), 24 SW1 (power), 25 ILIM1, 26 SENSE1, 27 FB1 (in), 28 COMP1, 29 DAP (power)

## LM2647LQ/NOPB
designator U?
Dual Synchronous Buck Regulator Controller, 28-pin LLP, Pb-Free; PartNumber: LM2647LQ/NOPB; Manufacturer: National Semiconductor; PackageTopMarking: NS*UZXYTTE#*LM2647; PowerWise: N; CompType: Switcher; High-Reliability: Y; DatasheetVersion: Jun-2005; PackageVersion: revB, Jul-2001; PackageReference: LQA28A; PackageDescription: LLP, Plastic, Quad, 5 x 5 x 0.75mm Body, 28 Lead, 0.5mm Pitch; RoHS: Y; PinCount: 28; Code_JEDEC: MO-220-WHHD-1; ComponentLink1Description: Manufacturer URL; ComponentLink1URL: http://www.national.com/; ComponentLink2Description: LM2647 Datasheet; ComponentLink2URL: http://www.national.com/ds/LM/LM2647.pdf; ComponentLink3Description: LM2647 Web Page; ComponentLink3URL: http://www.national.com/pf/LM/LM2647.html; ComponentLink4Description: LQA28A Package Page; ComponentLink4URL: http://www.national.com/packaging/folders/lqa28a.html
footprint LQA28A (PQFN, 28-Leads, Body 5x5mm, Pitch 0.5mm, Thermal Pad 3.3x3.3mm, NSC Recommended)
pins: 1 SS1, 2 VDD (power), 3 FREQ (in), 4 SGND (power), 5 EN (in), 6 PGOOD (oc), 7 FPWM (in), 8 SS2, 9 COMP2, 10 FB2 (in), 11 SENSE2, 12 ILIM2, 13 SW2 (power), 14 HDRV2 (out), 15 BOOT2, 16 PGND2 (power), 17 LDRV2 (out), 18 V5 (power), 19 VIN (power), 20 LDRV1 (out), 21 PGND1 (power), 22 BOOT1, 23 HDRV1 (out), 24 SW1 (power), 25 ILIM1, 26 SENSE1, 27 FB1 (in), 28 COMP1, 29 DAP (power)

## LM2647LQX
designator U?
Dual Synchronous Buck Regulator Controller, 28-pin LLP; PartNumber: LM2647LQX; Manufacturer: National Semiconductor; PackageTopMarking: NS*UZXYTTE#*LM2647; PowerWise: N; CompType: Switcher; High-Reliability: Y; DatasheetVersion: Jun-2005; PackageVersion: revB, Jul-2001; PackageReference: LQA28A; PackageDescription: LLP, Plastic, Quad, 5 x 5 x 0.75mm Body, 28 Lead, 0.5mm Pitch; RoHS: N; PinCount: 28; Code_JEDEC: MO-220-WHHD-1; ComponentLink1Description: Manufacturer URL; ComponentLink1URL: http://www.national.com/; ComponentLink2Description: LM2647 Datasheet; ComponentLink2URL: http://www.national.com/ds/LM/LM2647.pdf; ComponentLink3Description: LM2647 Web Page; ComponentLink3URL: http://www.national.com/pf/LM/LM2647.html; ComponentLink4Description: LQA28A Package Page; ComponentLink4URL: http://www.national.com/packaging/folders/lqa28a.html
footprint LQA28A (PQFN, 28-Leads, Body 5x5mm, Pitch 0.5mm, Thermal Pad 3.3x3.3mm, NSC Recommended)
pins: 1 SS1, 2 VDD (power), 3 FREQ (in), 4 SGND (power), 5 EN (in), 6 PGOOD (oc), 7 FPWM (in), 8 SS2, 9 COMP2, 10 FB2 (in), 11 SENSE2, 12 ILIM2, 13 SW2 (power), 14 HDRV2 (out), 15 BOOT2, 16 PGND2 (power), 17 LDRV2 (out), 18 V5 (power), 19 VIN (power), 20 LDRV1 (out), 21 PGND1 (power), 22 BOOT1, 23 HDRV1 (out), 24 SW1 (power), 25 ILIM1, 26 SENSE1, 27 FB1 (in), 28 COMP1, 29 DAP (power)

## LM2647MTC
designator U?
Dual Synchronous Buck Regulator Controller, 28-pin TSSOP; PartNumber: LM2647MTC; Manufacturer: National Semiconductor; PackageTopMarking: NSUZXYTTE#*LM2647*MTC; PowerWise: N; CompType: Switcher; High-Reliability: Y; DatasheetVersion: Jun-2005; PackageVersion: revD, Jan-2005; PackageReference: MTC28; PackageDescription: Molded TSSOP, Jedec, 9.7 x 4.4 x 0.9mm Body, 28 Lead, 0.65mm Pitch; RoHS: N; PinCount: 28; Code_JEDEC: MO-153-AE; ComponentLink1Description: Manufacturer URL; ComponentLink1URL: http://www.national.com/; ComponentLink2Description: LM2647 Datasheet; ComponentLink2URL: http://www.national.com/ds/LM/LM2647.pdf; ComponentLink3Description: LM2647 Web Page; ComponentLink3URL: http://www.national.com/pf/LM/LM2647.html; ComponentLink4Description: MTC28 Package Page; ComponentLink4URL: http://www.national.com/packaging/folders/mtc28.html
footprint MTC28_N (TSOP, 28-Leads, Body 9.7x4.4mm, Pitch 0.65mm, IPC Medium Density)
footprint MTC28_L (TSOP, 28-Leads, Body 9.7x4.4mm, Pitch 0.65mm, IPC High Density)
footprint MTC28_M (TSOP, 28-Leads, Body 9.7x4.4mm, Pitch 0.65mm, IPC Low Density)
pins: 1 SENSE1, 2 FB1 (in), 3 COMP1, 4 SS1, 5 VDD (power), 6 FREQ (in), 7 SGND (power), 8 EN (in), 9 PGOOD (oc), 10 FPWM (in), 11 SS2, 12 COMP2, 13 FB2 (in), 14 SENSE2, 15 ILIM2, 16 SW2 (power), 17 HDRV2 (out), 18 BOOT2, 19 PGND2 (power), 20 LDRV2 (out), 21 V5 (power), 22 VIN (power), 23 LDRV1 (out), 24 PGND1 (power), 25 BOOT1, 26 HDRV1 (out), 27 SW1 (power), 28 ILIM1

## LM2647MTC/NOPB
designator U?
Dual Synchronous Buck Regulator Controller, 28-pin TSSOP, Pb-Free; PartNumber: LM2647MTC/NOPB; Manufacturer: National Semiconductor; PackageTopMarking: NSUZXYTTE#*LM2647*MTC; PowerWise: N; CompType: Switcher; High-Reliability: Y; DatasheetVersion: Jun-2005; PackageVersion: revD, Jan-2005; PackageReference: MTC28; PackageDescription: Molded TSSOP, Jedec, 9.7 x 4.4 x 0.9mm Body, 28 Lead, 0.65mm Pitch; RoHS: Y; PinCount: 28; Code_JEDEC: MO-153-AE; ComponentLink1Description: Manufacturer URL; ComponentLink1URL: http://www.national.com/; ComponentLink2Description: LM2647 Datasheet; ComponentLink2URL: http://www.national.com/ds/LM/LM2647.pdf; ComponentLink3Description: LM2647 Web Page; ComponentLink3URL: http://www.national.com/pf/LM/LM2647.html; ComponentLink4Description: MTC28 Package Page; ComponentLink4URL: http://www.national.com/packaging/folders/mtc28.html
footprint MTC28_N (TSOP, 28-Leads, Body 9.7x4.4mm, Pitch 0.65mm, IPC Medium Density)
footprint MTC28_L (TSOP, 28-Leads, Body 9.7x4.4mm, Pitch 0.65mm, IPC High Density)
footprint MTC28_M (TSOP, 28-Leads, Body 9.7x4.4mm, Pitch 0.65mm, IPC Low Density)
pins: 1 SENSE1, 2 FB1 (in), 3 COMP1, 4 SS1, 5 VDD (power), 6 FREQ (in), 7 SGND (power), 8 EN (in), 9 PGOOD (oc), 10 FPWM (in), 11 SS2, 12 COMP2, 13 FB2 (in), 14 SENSE2, 15 ILIM2, 16 SW2 (power), 17 HDRV2 (out), 18 BOOT2, 19 PGND2 (power), 20 LDRV2 (out), 21 V5 (power), 22 VIN (power), 23 LDRV1 (out), 24 PGND1 (power), 25 BOOT1, 26 HDRV1 (out), 27 SW1 (power), 28 ILIM1

## LM2647MTCX
designator U?
Dual Synchronous Buck Regulator Controller, 28-pin TSSOP; PartNumber: LM2647MTCX; Manufacturer: National Semiconductor; PackageTopMarking: NSUZXYTTE#*LM2647*MTC; PowerWise: N; CompType: Switcher; High-Reliability: Y; DatasheetVersion: Jun-2005; PackageVersion: revD, Jan-2005; PackageReference: MTC28; PackageDescription: Molded TSSOP, Jedec, 9.7 x 4.4 x 0.9mm Body, 28 Lead, 0.65mm Pitch; RoHS: N; PinCount: 28; Code_JEDEC: MO-153-AE; ComponentLink1Description: Manufacturer URL; ComponentLink1URL: http://www.national.com/; ComponentLink2Description: LM2647 Datasheet; ComponentLink2URL: http://www.national.com/ds/LM/LM2647.pdf; ComponentLink3Description: LM2647 Web Page; ComponentLink3URL: http://www.national.com/pf/LM/LM2647.html; ComponentLink4Description: MTC28 Package Page; ComponentLink4URL: http://www.national.com/packaging/folders/mtc28.html
footprint MTC28_N (TSOP, 28-Leads, Body 9.7x4.4mm, Pitch 0.65mm, IPC Medium Density)
footprint MTC28_L (TSOP, 28-Leads, Body 9.7x4.4mm, Pitch 0.65mm, IPC High Density)
footprint MTC28_M (TSOP, 28-Leads, Body 9.7x4.4mm, Pitch 0.65mm, IPC Low Density)
pins: 1 SENSE1, 2 FB1 (in), 3 COMP1, 4 SS1, 5 VDD (power), 6 FREQ (in), 7 SGND (power), 8 EN (in), 9 PGOOD (oc), 10 FPWM (in), 11 SS2, 12 COMP2, 13 FB2 (in), 14 SENSE2, 15 ILIM2, 16 SW2 (power), 17 HDRV2 (out), 18 BOOT2, 19 PGND2 (power), 20 LDRV2 (out), 21 V5 (power), 22 VIN (power), 23 LDRV1 (out), 24 PGND1 (power), 25 BOOT1, 26 HDRV1 (out), 27 SW1 (power), 28 ILIM1

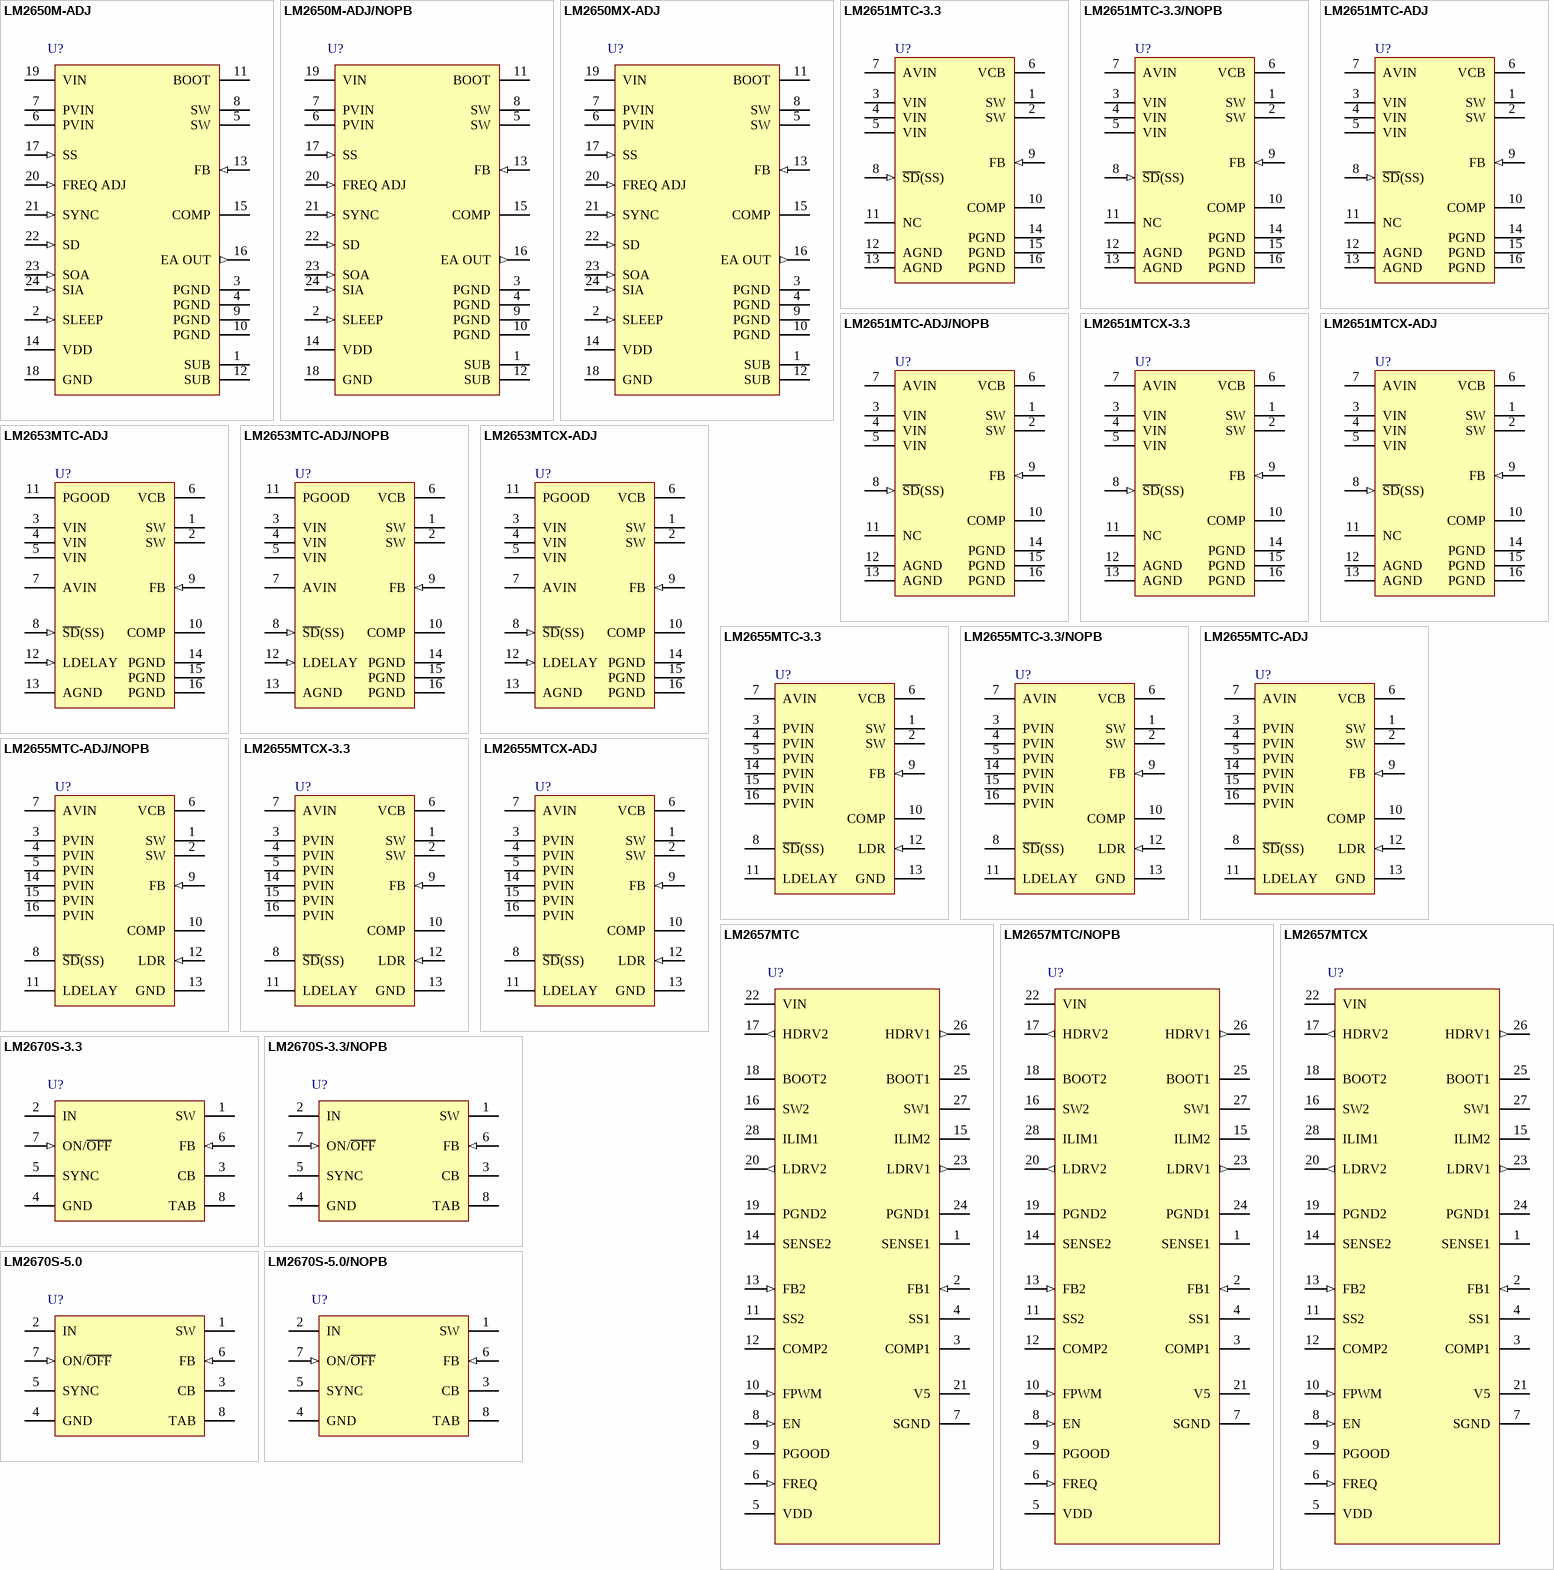
[diagram p15: symbols LM2650M-ADJ to LM2670S-5.0/NOPB]

## LM2650M-ADJ
designator U?
Synchronous Step-Down DC/DC Converter, 24-pin Wide SOIC; PartNumber: LM2650M-ADJ; Manufacturer: National Semiconductor; PackageTopMarking: NSUZXYTTE#*LM2650M*-ADJ; PowerWise: N; CompType: Switcher; High-Reliability: Y; DatasheetVersion: Nov-2005; PackageVersion: revF, Apr-1990; PackageReference: M24B; PackageDescription: Molded Package, S.O., .300in Wide, 24 Lead; RoHS: N; PinCount: 24; ComponentLink1Description: Manufacturer URL; ComponentLink1URL: http://www.national.com/; ComponentLink2Description: LM2650 Datasheet; ComponentLink2URL: http://www.national.com/ds/LM/LM2650.pdf; ComponentLink3Description: LM2650 Web Page; ComponentLink3URL: http://www.national.com/pf/LM/LM2650.html; ComponentLink4Description: M24B Package Page; ComponentLink4URL: http://www.national.com/packaging/folders/m24b.html
footprint M24B_N (SOIC, 24-Leads, Body 15.4x7.5mm, Pitch 1.27mm, IPC Medium Density)
footprint M24B_L (SOIC, 24-Leads, Body 15.4x7.5mm, Pitch 1.27mm, IPC High Density)
footprint M24B_M (SOIC, 24-Leads, Body 15.4x7.5mm, Pitch 1.27mm, IPC Low Density)
pins: 1 SUB (power), 2 SLEEP (in), 3 PGND (power), 4 PGND (power), 5 SW (power), 6 PVIN (power), 7 PVIN (power), 8 SW (power), 9 PGND (power), 10 PGND (power), 11 BOOT, 12 SUB (power), 13 FB (in), 14 VDD (power), 15 COMP, 16 EA OUT (out), 17 SS (in), 18 GND (power), 19 VIN (power), 20 FREQ ADJ (in), 21 SYNC (in), 22 SD (in), 23 SOA (in), 24 SIA (in)

## LM2650M-ADJ/NOPB
designator U?
Synchronous Step-Down DC/DC Converter, 24-pin Wide SOIC, Pb-Free; PartNumber: LM2650M-ADJ/NOPB; Manufacturer: National Semiconductor; PackageTopMarking: NSUZXYTTE#*LM2650M*-ADJ; PowerWise: N; CompType: Switcher; High-Reliability: Y; DatasheetVersion: Nov-2005; PackageVersion: revF, Apr-1990; PackageReference: M24B; PackageDescription: Molded Package, S.O., .300in Wide, 24 Lead; RoHS: Y; PinCount: 24; ComponentLink1Description: Manufacturer URL; ComponentLink1URL: http://www.national.com/; ComponentLink2Description: LM2650 Datasheet; ComponentLink2URL: http://www.national.com/ds/LM/LM2650.pdf; ComponentLink3Description: LM2650 Web Page; ComponentLink3URL: http://www.national.com/pf/LM/LM2650.html; ComponentLink4Description: M24B Package Page; ComponentLink4URL: http://www.national.com/packaging/folders/m24b.html
footprint M24B_N (SOIC, 24-Leads, Body 15.4x7.5mm, Pitch 1.27mm, IPC Medium Density)
footprint M24B_L (SOIC, 24-Leads, Body 15.4x7.5mm, Pitch 1.27mm, IPC High Density)
footprint M24B_M (SOIC, 24-Leads, Body 15.4x7.5mm, Pitch 1.27mm, IPC Low Density)
pins: 1 SUB (power), 2 SLEEP (in), 3 PGND (power), 4 PGND (power), 5 SW (power), 6 PVIN (power), 7 PVIN (power), 8 SW (power), 9 PGND (power), 10 PGND (power), 11 BOOT, 12 SUB (power), 13 FB (in), 14 VDD (power), 15 COMP, 16 EA OUT (out), 17 SS (in), 18 GND (power), 19 VIN (power), 20 FREQ ADJ (in), 21 SYNC (in), 22 SD (in), 23 SOA (in), 24 SIA (in)

## LM2650MX-ADJ
designator U?
Synchronous Step-Down DC/DC Converter, 24-pin Wide SOIC; PartNumber: LM2650MX-ADJ; Manufacturer: National Semiconductor; PackageTopMarking: NSUZXYTTE#*LM2650M*-ADJ; PowerWise: N; CompType: Switcher; High-Reliability: Y; DatasheetVersion: Nov-2005; PackageVersion: revF, Apr-1990; PackageReference: M24B; PackageDescription: Molded Package, S.O., .300in Wide, 24 Lead; RoHS: N; PinCount: 24; ComponentLink1Description: Manufacturer URL; ComponentLink1URL: http://www.national.com/; ComponentLink2Description: LM2650 Datasheet; ComponentLink2URL: http://www.national.com/ds/LM/LM2650.pdf; ComponentLink3Description: LM2650 Web Page; ComponentLink3URL: http://www.national.com/pf/LM/LM2650.html; ComponentLink4Description: M24B Package Page; ComponentLink4URL: http://www.national.com/packaging/folders/m24b.html
footprint M24B_N (SOIC, 24-Leads, Body 15.4x7.5mm, Pitch 1.27mm, IPC Medium Density)
footprint M24B_L (SOIC, 24-Leads, Body 15.4x7.5mm, Pitch 1.27mm, IPC High Density)
footprint M24B_M (SOIC, 24-Leads, Body 15.4x7.5mm, Pitch 1.27mm, IPC Low Density)
pins: 1 SUB (power), 2 SLEEP (in), 3 PGND (power), 4 PGND (power), 5 SW (power), 6 PVIN (power), 7 PVIN (power), 8 SW (power), 9 PGND (power), 10 PGND (power), 11 BOOT, 12 SUB (power), 13 FB (in), 14 VDD (power), 15 COMP, 16 EA OUT (out), 17 SS (in), 18 GND (power), 19 VIN (power), 20 FREQ ADJ (in), 21 SYNC (in), 22 SD (in), 23 SOA (in), 24 SIA (in)

## LM2651MTC-3.3
designator U?
1.5A High Efficiency Switching Regulator, 16-pin TSSOP; PartNumber: LM2651MTC-3.3; Manufacturer: National Semiconductor; PackageTopMarking: NSZXYTT*2651MTC*-3.3; PowerWise: N; CompType: Switcher; High-Reliability: Y; DatasheetVersion: Apr-2005; PackageVersion: revD, Jun-2003; PackageReference: MTC16; PackageDescription: Molded TSSOP, Jedec, 5 x 4.4 x 0.9mm Body, 16 Lead, 0.65mm Pitch; RoHS: N; PinCount: 16; Code_JEDEC: MO-153-AB; ComponentLink1Description: Manufacturer URL; ComponentLink1URL: http://www.national.com/; ComponentLink2Description: LM2651 Datasheet; ComponentLink2URL: http://www.national.com/ds/LM/LM2651.pdf; ComponentLink3Description: LM2651 Web Page; ComponentLink3URL: http://www.national.com/pf/LM/LM2651.html; ComponentLink4Description: MTC16 Package Page; ComponentLink4URL: http://www.national.com/packaging/folders/mtc16.html
footprint MTC16_N (TSOP, 16-Leads, Body 5x4.4mm, Pitch 0.65mm, IPC Medium Density)
footprint MTC16_L (TSOP, 16-Leads, Body 5x4.4mm, Pitch 0.65mm, IPC High Density)
footprint MTC16_M (TSOP, 16-Leads, Body 5x4.4mm, Pitch 0.65mm, IPC Low Density)
pins: 1 SW (power), 2 SW (power), 3 VIN (power), 4 VIN (power), 5 VIN (power), 6 VCB, 7 AVIN (power), 8 ~{SD}(SS) (in), 9 FB (in), 10 COMP, 11 NC, 12 AGND (power), 13 AGND (power), 14 PGND (power), 15 PGND (power), 16 PGND (power)